# EAGLE library part MUX-74HC4067 (library LM4880)
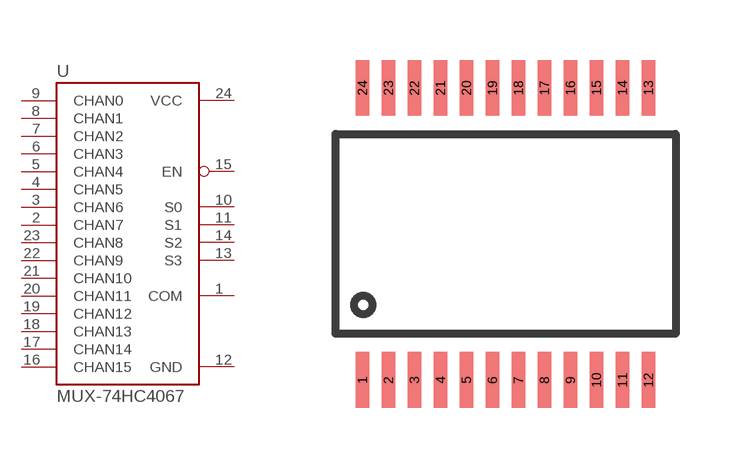
[diagram p178: symbol with the pads of SSOP24; footprint SSOP24]

Designator prefix -

## MUX-74HC4067SMD  [SSOP24]
1  COM
2  CHAN7
3  CHAN6
4  CHAN5
5  CHAN4
6  CHAN3
7  CHAN2
8  CHAN1
9  CHAN0
10  S0  in
11  S1  in
12  GND
13  S3  in
14  S2  in
15  EN  in
16  CHAN15
17  CHAN14
18  CHAN13
19  CHAN12
20  CHAN11
21  CHAN10
22  CHAN9
23  CHAN8
24  VCC

## Footprint SSOP24 (pad centres in mm)
smd 0.348 x 1.397: 1 -3.575,-3.656; 2 -2.925,-3.656; 3 -2.275,-3.656; 4 -1.625,-3.656; 5 -0.975,-3.656; 6 -0.325,-3.656; 7 0.325,-3.656; 8 0.975,-3.656; 9 1.625,-3.656; 10 2.275,-3.656; 11 2.925,-3.656; 12 3.575,-3.656; 13 3.575,3.656; 14 2.925,3.656; 15 2.275,3.656; 16 1.625,3.656; 17 0.975,3.656; 18 0.325,3.656; 19 -0.325,3.656; 20 -0.975,3.656; 21 -1.625,3.656; 22 -2.275,3.656; 23 -2.925,3.656; 24 -3.575,3.656